# Altium schematic symbol library thristor_S4X8TS1RP.SchLib: 1 symbol
Pins are listed as number, name and electrical type; pins without a type are passive.

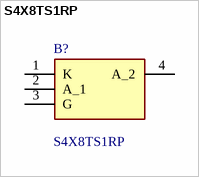
[diagram p0: symbol S4X8TS1RP]

## S4X8TS1RP
designator B?
SCR 400 V 800 mA Sensitive Gate Surface Mount SOT-223; Manufacturer_Name: LITTELFUSE; Geometry.Height: 1.93mm; TTI Part Number: *; TTI Price/Stock: *; Manufacturer_Part_Number: S4X8TS1RP; Datasheet Link: https://www.littelfuse.com/media?resourcetype=datasheets&itemid=33d0d5e7-46fd-406d-80ae-f94899e78783&filename=littelfuse-thyristor-sxx8xsx-datasheet
footprint S4X8TS1RP
pins: 1 K, 2 A_1, 3 G, 4 A_2